# Altium schematic symbol library IN-S126TASRGB.SchLib: 1 symbol
Pins are listed as number, name and electrical type; pins without a type are passive.

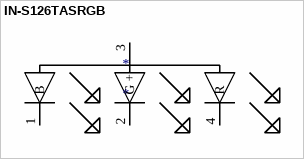
[diagram p0: symbol IN-S126TASRGB]

## IN-S126TASRGB
designator *
IN-S126TASRGB
footprint IN-S126TASRGB (Right angle RGB)
pins: 1 B, 2 G, 3 +, 4 R